# Altium footprint library DAU_Kupplung_1_phasig_V1_16.PcbLib: 22 footprints (part 1 of 2)
Each footprint in its own frame and in the unit in brackets; x right, y up, seen from the top. Pads: shape width x height; smd on the part's side, far side on the other; paste and mask are expansions set on the pad; w line width, h text height; cw(c..) or ccw(c..) is an arc to the next point about the centre after c.
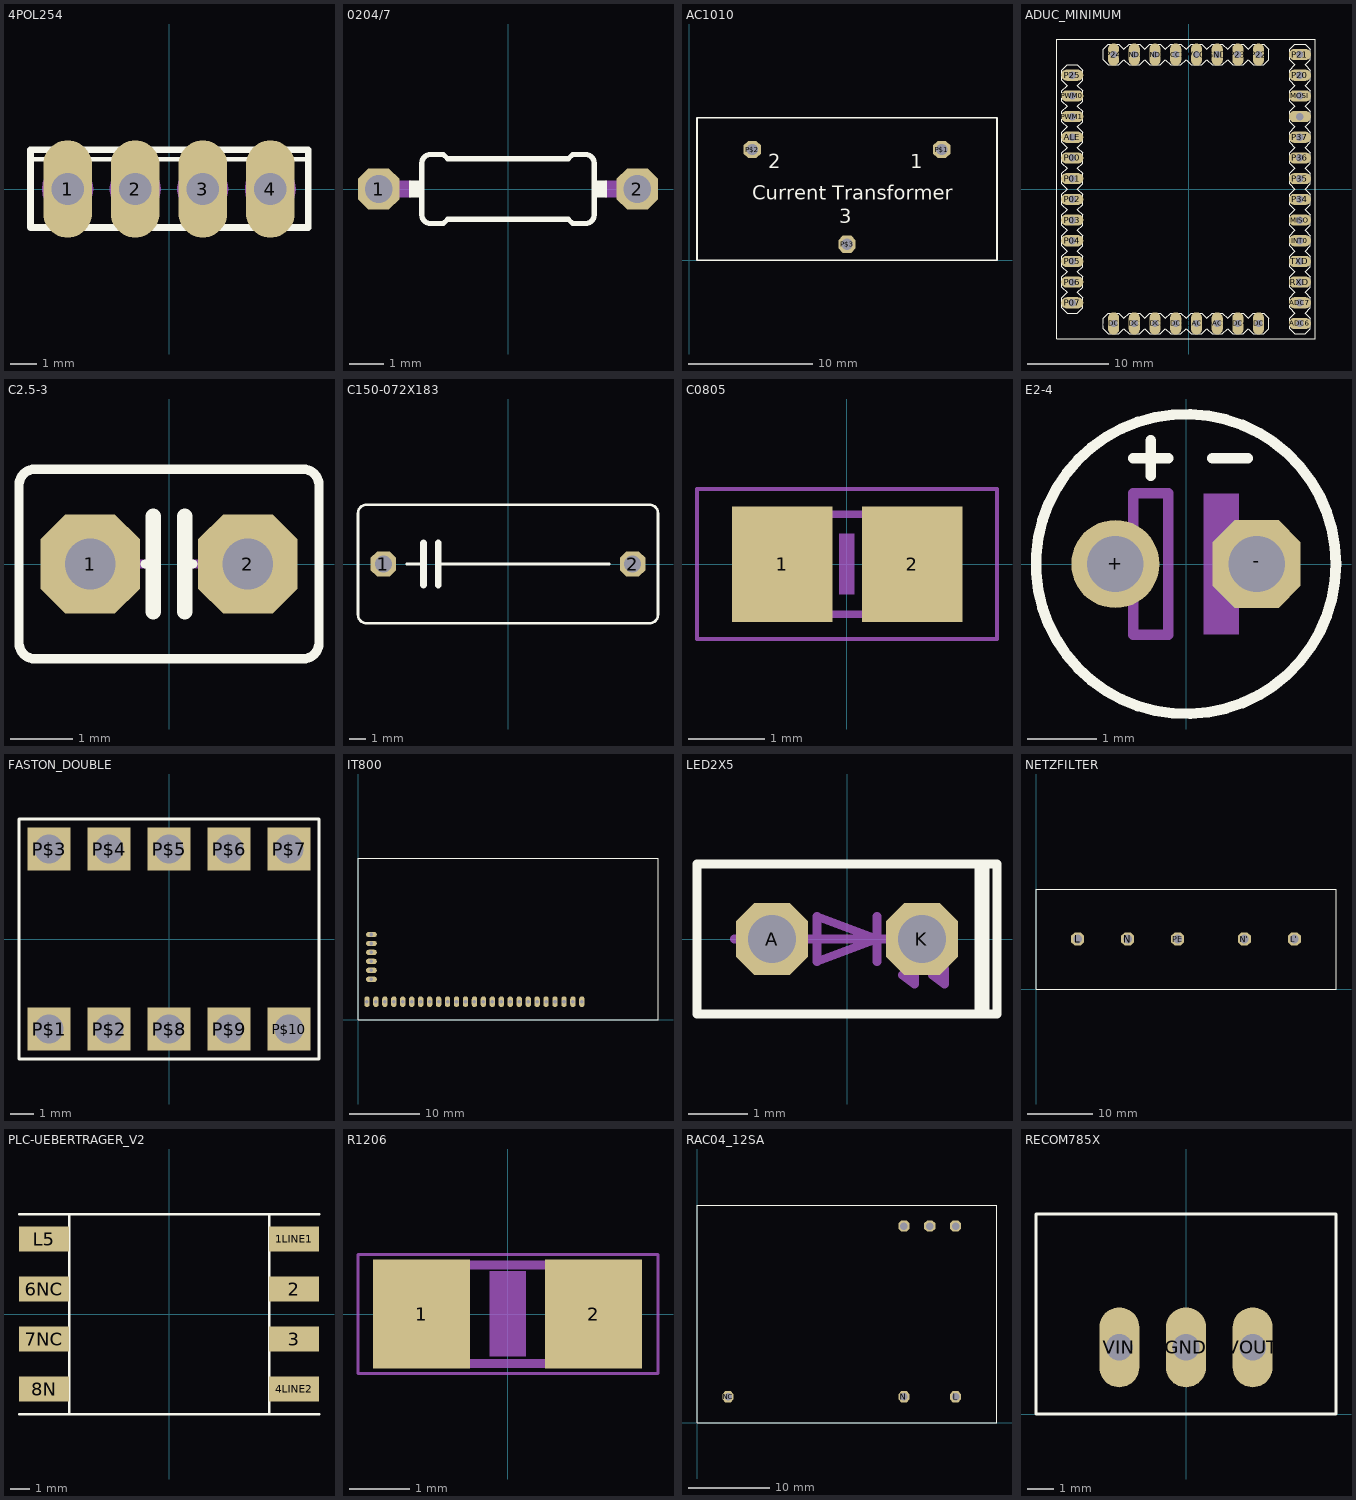
[diagram p0: the footprints below, top view; thin cyan lines are the x and y axes]

## 4POL254 [mil] "4POL254"
pads (4):
  oval 72x144 hole 48: 1(-150,0) 2(-50,0) 3(50,0) 4(150,0)
Top Overlay:
  lines w6: -200.79,44 201,44
  lines w10: -205.12,-57.09 -205.12,58 206,58 206,-57.09 -205.12,-57.09
Mechanical 16:
  circle w6: c150,0 r35
  circle w6: c50,0 r35
  circle w6: c-50,0 r35
  circle w6: c-150,0 r35
  lines w6: -175,-20 -130,25 ; -80,-10 -20,5 ; 30,25 70,-25 ; 120,15 180,-15

## 0204/7 [mil] "0204/7"
pads (2):
  oct 48x48 hole 32: 1(-150,0) 2(150,0)
Top Overlay:
  rectangle: -115,-10 -100,10
  rectangle: 100,-10 115,10
  lines w6: -100,-30 ccw(c-90,-30) -90,-40 -75,-40 -70,-35 70,-35 75,-40 90,-40 ccw(c90,-30) 100,-30 100,30 ccw(c90,30) 90,40 75,40 70,35 -70,35 -75,40 -90,40 ccw(c-90,30) -100,30 -100,-30
Mechanical 16:
  lines w20: -150,0 -115,0 ; 115,0 150,0

## AC1010 [mil] "AC1010"
pads (3):
  oct 54x54 hole 36: P$1(800,350) P$2(200,350) P$3(500,50)
Top Overlay:
  lines w5: 25,0 975,0 975,450 25,450 25,0
  text "Current Transformer" at 200,175 h77.5
  text "3" at 475,100 h77.5
  text "2" at 250,275 h77.5
  text "1" at 700,275 h77.5

## ADUC_MINIMUM [mil] "ADUC_MINIMUM"
pads (42):
  oval 54x108 hole 36: ADC0(-362.5,-650) ADC1(-262.5,-650) ADC2(-162.5,-650) ADC3(-62.5,-650) ADC4(238,-650) ADC5(338,-650) DAC0(38,-650) DAC1(138,-650) GND(138,650) GND2(-162.5,650) GND3(-262.5,650) P22(338,650) P23(238,650) P24(-362.5,650) VCC(38,650) VCC1(-62.5,650)
  oval 108x54 hole 36: ADC6(538,-650) ADC7(538,-550) ALE(-562.5,250) INT0(538,-250) MISO(538,-150) MOSI(538,450) P00(-562.5,150) P01(-562.5,50) P02(-562.5,-50) P03(-562.5,-150) P04(-562.5,-250) P05(-562.5,-350) P06(-562.5,-450) P07(-562.5,-550) P20(538,550) P21(538,650) P25(-562.5,550) P34(538,-50) P35(538,50) P36(538,150) P37(538,250) PWM0(-562.5,450) PWM1(-562.5,350) RXD(538,-450) SCLOCK(538,350) TXD(538,-350)
Top Overlay:
  drawing of 264 lines, arcs and shapes, not listed

## C2.5-3 [mil] "C2.5-3"
pads (2):
  oct 63x63 hole 32: 1(-50,0) 2(50,0)
Top Overlay:
  lines w6: -15,0 -10,0 ; 10,0 15,0 ; -95,-50 ccw(c-85,-50) -85,-60 85,-60 ccw(c85,-50) 95,-50 95,50 ccw(c85,50) 85,60 -85,60 ccw(c-85,50) -95,50 -95,-50
  lines w10: -10,-30 -10,0 -10,30 ; 10,-30 10,0 10,30
Mechanical 16:
  lines w6: -50,0 -15,0 ; 15,0 50,0

## C150-072X183 [mil] "C150-072X183"
pads (2):
  oct 60x60 hole 40: 1(-295,0) 2(295,0)
Top Overlay:
  lines w6: -240,0 -200,0 ; -165,0 240,0 ; -355,-120 ccw(c-335,-120) -335,-140 335,-140 ccw(c335,-120) 355,-120 355,120 ccw(c335,120) 335,140 -335,140 ccw(c-335,120) -355,120 -355,-120
  lines w16: -200,-50 -200,0 -200,50 ; -165,-50 -165,0 -165,50

## C0805 [mil] "C0805"
pads (2):
  rect 52x60 smd: 1(-33.46,0) 2(34,0)
Mechanical 6:
  rectangle: -3.94,-15.75 4,16
Mechanical 16:
  rectangle: -43,-28.5 -13.47,29
  rectangle: 14,-28.5 44,29
  lines w2: -77.68,-38.7 78,-38.7 78,39 -77.68,39 -77.68,-38.7
  lines w4: -15,26 15,26 ; -14.02,-25.98 15,-25.98

## E2-4 [mil] "E2-4"
pads (2):
  round 50 hole 32: +(-40,0)
  oct 50x50 hole 32: -(40,0)
Top Overlay:
  circle w6: c0,0 r85
  lines w6: -30,60 -10,60 ; -20,50 -20,70 ; 15,60 35,60
Mechanical 16:
  rectangle: 10,-40 30,40
  lines w6: -60,0 -30,0 ; 25,0 60,0 ; -30,0 -30,40 -10,40 -10,-40 -30,-40 -30,0

## FASTON_DOUBLE [mil] "FASTON_DOUBLE"
pads (10):
  rect 72x72 hole 48: P$1(-200,-150) P$2(-100,-150) P$3(-200,150) P$4(-100,150) P$5(0,150) P$6(100,150) P$7(200,150) P$8(0,-150) P$9(100,-150) P$10(200,-150)
Top Overlay:
  lines w5: -250,-200 250,-200 250,200 -250,200 -250,-200

## IT800 [mil] "IT800"
pads (31):
  oval 30x60 hole 20: 2AGND(100,100) 3GND(150,100) 4_33VAN(200,100) 5_33V(250,100) 5V(1250,100) LINE1(1000,100) LINE2(1050,100) P$1(50,100) P$6(300,100) P$7(350,100) P$8(400,100) P$10(500,100) P$11(550,100) P$12(600,100) P$13(650,100) P$14(700,100) P$15(750,100) P$16(800,100) P$17(850,100) P$18(900,100) P$19(950,100) P$22(1100,100) P$23(1150,100) P$24(1200,100) RESET(450,100)
  oval 60x30 hole 20: P$26(75,225) P$27(75,275) P$28(75,325) P$29(75,375) P$30(75,425) P$31(75,475)
Top Overlay:
  lines w5: 0,0 0,900 1675,900 1675,0 0,0

## LED2X5 [mil] "LED2X5"
pads (2):
  oct 48x48 hole 32: A(-50,0) K(50,0)
Top Overlay:
  rectangle: 85,-50 95,50
  lines w6: -100,-50 100,-50 100,50 -100,50 -100,-50
Mechanical 16:
  lines w6: -75,0 20,0 ; 20,-15 20,0 ; 20,15 20,0 ; 35,-10 45,-30 ; 55,-10 65,-30 ; 70,0 20,0 ; 20,0 -20,15 -20,-15 20,0 ; 45,-30 45,-20 37,-24 45,-30 ; 65,-30 65,-20 57,-24 65,-30

## NETZFILTER [mil] "NETZFILTER"
pads (5):
  oct 78x78 hole 52: L(250,300) L'(1550,300) N(550,300) N'(1250,300) PE(850,300)
Top Overlay:
  lines w5: 0,0 1800,0 1800,600 0,600 0,0

## PLC-UEBERTRAGER_V2 [mil] "PLC-UEBERTRAGER_V2"
pads (8):
  rect 100x50 smd: 1LINE1(250,150) 2(250,50) 3(250,-50) 4LINE2(250,-150) 6NC(-250,50) 7NC(-250,-50) 8N(-250,-150) L5(-250,150)
Top Overlay:
  lines w5: -300,-200 300,-200 ; -300,200 300,200 ; -200,200 -200,-200 200,-200 200,200

## R1206 [mil] "R1206"
pads (2):
  rect 63x71 smd: 1(-55.98,0) 2(56,0)
Mechanical 6:
  rectangle: -11.81,-27.56 12,28
Mechanical 16:
  rectangle: -66.5,-34.5 -37.5,35
  rectangle: 38,-34.5 67,35
  lines w2: -97.36,-38.7 98,-38.7 98,39 -97.36,39 -97.36,-38.7
  lines w6: -38,-32 38,-32 ; -38,32 38,32

## RAC04_12SA [mil] "RAC04_12SA"
pads (6):
  oct 54x54 hole 36: +VO(1000,950) GND(1125,950) L(1250,125) N(1000,125) NC(150,125) NC1(1250,950)
Top Overlay:
  lines w5: 0,0 1450,0 1450,1050 0,1050 0,0

## RECOM785X [mil] "RECOM785X"
pads (3):
  oval 60x120 hole 40: GND(0,100) VIN(-100,100) VOUT(100,100)
Top Overlay:
  lines w5: -225,0 -225,300 225,300 225,0 -225,0